# Altium schematic symbol library SK68XX.SchLib: 1 symbol
Pins are listed as number, name and electrical type; pins without a type are passive.

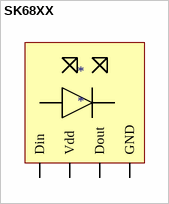
[diagram p0: symbol SK68XX]

## SK68XX
designator *
Addressible side RGB LED
footprint SK68XX (Addressible RGB LED)
pins: 1 Din, 2 Vdd, 3 Dout, 4 GND